# Altium integrated library RKZ-0505S.IntLib: 1 symbol
Pins are listed as number, name and electrical type; pins without a type are passive.

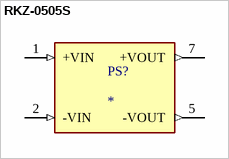
[diagram p0: symbol RKZ-0505S]

## RKZ-0505S
designator PS?
RKZ Series 2 W Single Output 5 V DC/DC Converter - SIP-7; MP: RKZ-0505S; Package: None; Price: None; Value: *; Availability: Unavailable
footprint CONV_RKZ-0505S
pins: 1 +VIN (in), 2 -VIN (in), 5 -VOUT (out), 7 +VOUT (out)